# Altium schematic symbol library 2_Pin_ScrewTerm.SchLib: 1 symbol
Pins are listed as number, name and electrical type; pins without a type are passive.

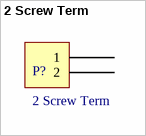
[diagram p0: symbol 2 Screw Term]

## 2 Screw Term
designator P?
Supplier: Digikey; Supplier Part Number: 1297-1108-1-ND
footprint PCBComponent_1
pins: 1, 2